# Altium schematic symbol library TPS55330RTE.SchLib: 1 symbol
Pins are listed as number, name and electrical type; pins without a type are passive.

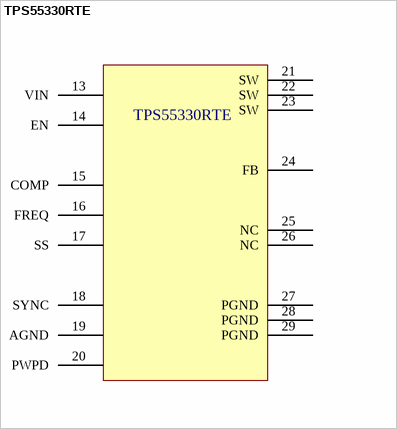
[diagram p0: symbol TPS55330RTE]

## TPS55330RTE
designator TPS55330RTE
pins: 13 VIN, 14 EN, 15 COMP, 16 FREQ, 17 SS, 18 SYNC, 19 AGND, 20 PWPD, 21 SW, 22 SW, 23 SW, 24 FB, 25 NC, 26 NC, 27 PGND, 28 PGND, 29 PGND